# EAGLE library part AD5272 (library NA-2025)
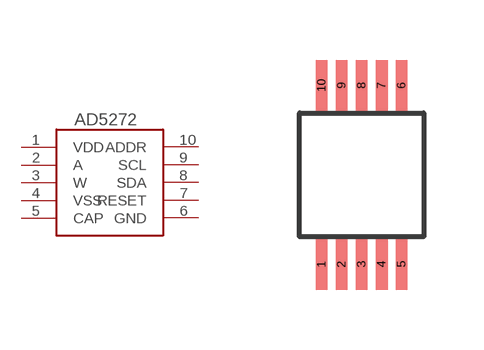
[diagram p3: symbol with the pads of MSOP10; footprint MSOP10]

Designator prefix -

## AD5272  [MSOP10]
1  VDD
2  A
3  W
4  VSS
5  CAP
6  GND
7  RESET
8  SDA
9  SCL
10  ADDR

## Footprint MSOP10 (pad centres in mm)
smd 0.3 x 1.275: 1 -1,-2.24; 2 -0.5,-2.24; 3 0,-2.24; 4 0.5,-2.24; 5 1,-2.24; 6 1,2.24; 7 0.5,2.24; 8 0,2.24; 9 -0.5,2.24; 10 -1,2.24